# Altium schematic symbol library Capacitor_polarized.SchLib: 1 symbol
Pins are listed as number, name and electrical type; pins without a type are passive.

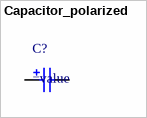
[diagram p0: symbol Capacitor_polarized]

## Capacitor_polarized
designator C?
pins: 1, 2